# Altium footprint library CUI_PJ-002AH-SMT-TR.PcbLib: 1 footprints
Each footprint in its own frame and in the unit in brackets; x right, y up, seen from the top. Pads: shape width x height; smd on the part's side, far side on the other; paste and mask are expansions set on the pad; w line width, h text height; cw(c..) or ccw(c..) is an arc to the next point about the centre after c.
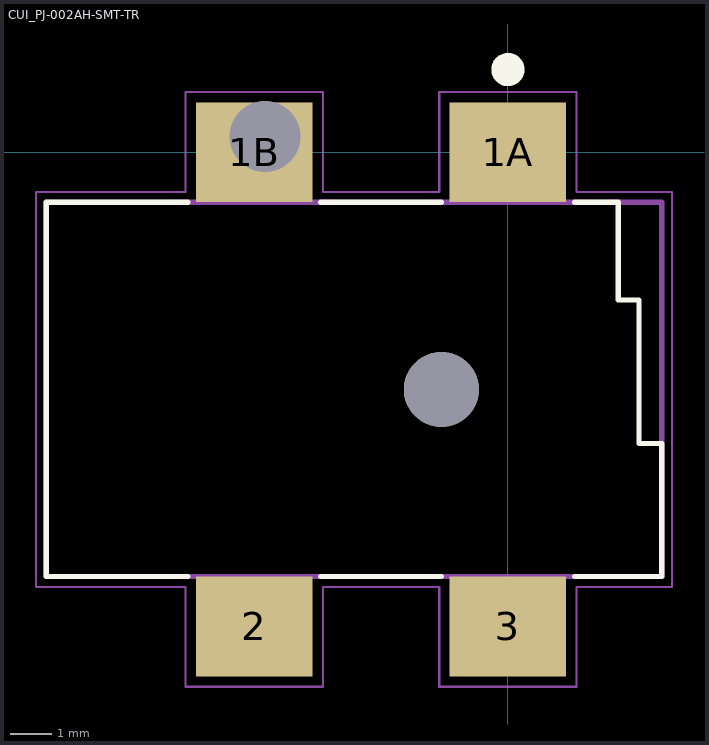
[diagram p0: the footprint, top view; thin cyan lines are the x and y axes]

## CUI_PJ-002AH-SMT-TR [mm]
pads (6):
  rect 2.8x2.4 smd: 1A(0,0) 1B(-6.1,0) 2(-6.1,-11.4) 3(0,-11.4)
  round 1.7 hole 1.7 unplated: ""(-5.842,0.381)
  round 1.8 hole 1.8 unplated: ""(-1.6,-5.7)
Top Overlay:
  circle w0.4: c0,1.99 r0.2
  lines w0.127: -7.7,-10.2 -11.1,-10.2 -11.1,-1.2 -7.7,-1.2 ; -4.5,-10.2 -1.6,-10.2 ; -4.5,-1.2 -1.6,-1.2 ; 1.6,-10.2 3.7,-10.2 3.7,-7 3.15,-7 3.15,-3.55 2.65,-3.55 2.65,-1.2 1.6,-1.2
Assembly Top:
  lines w0.127: -11.1,-10.2 3.7,-10.2 3.7,-1.2 -11.1,-1.2 -11.1,-10.2
Courtyard Top:
  lines w0.05: -11.35,-10.45 -11.35,-0.95 -7.75,-0.95 -7.75,1.45 -4.45,1.45 -4.45,-0.95 -1.65,-0.95 -1.65,1.45 1.65,1.45 1.65,-0.95 3.95,-0.95 3.95,-10.45 1.65,-10.45 1.65,-12.85 -1.65,-12.85 -1.65,-10.45 -4.45,-10.45 -4.45,-12.85 -7.75,-12.85 -7.75,-10.45 -11.35,-10.45
3D body "step_temp.STEP": height 4.5, standoff -7.3, extent -10.625,-11.838 4.275,0.762